# Altium schematic symbol library TL5632.SchLib: 1 symbol
Pins are listed as number, name and electrical type; pins without a type are passive.

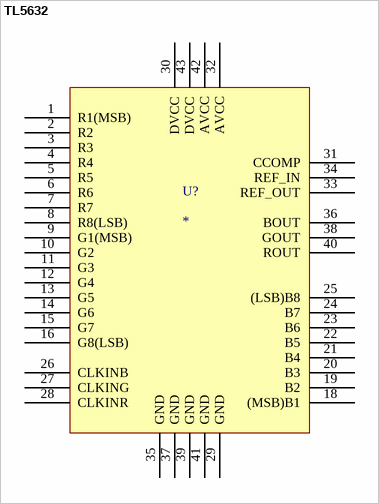
[diagram p0: symbol TL5632]

## TL5632
designator U?
3 x DAC 8bit Parallel 60Mhz
footprint TQFP-44N
pins: 1 R1(MSB) , 2 R2, 3 R3, 4 R4, 5 R5, 6 R6, 7 R7, 8 R8(LSB) , 9 G1(MSB), 10 G2, 11 G3, 12 G4, 13 G5, 14 G6, 15 G7, 16 G8(LSB), 18 (MSB)B1, 19 B2, 20 B3, 21 B4, 22 B5, 23 B6, 24 B7, 25 (LSB)B8, 26 CLKINB, 27 CLKING, 28 CLKINR, 29 GND, 30 DVCC, 31 CCOMP, 32 AVCC, 33 REF_OUT, 34 REF_IN, 35 GND, 36 BOUT, 37 GND, 38 GOUT, 39 GND, 40 ROUT, 41 GND, 42 AVCC, 43 DVCC